# EAGLE library part 2X4_BRD (library cTechnologies_connectors)
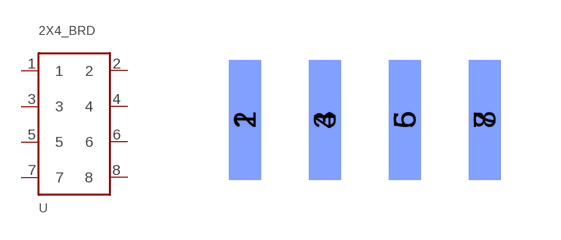
[diagram p10: symbol with the pads of 2X4-2MM; footprint 2X4-2MM]

Designator prefix -

## 2X4_BRD  [2X4-2MM]
1  1
2  2
3  3
4  4
5  5
6  6
7  7
8  8

## Footprint 2X4-2MM (pad centres in mm)
smd 0.8 x 3: 1 -3,0; 3 -1,0; 5 1,0; 7 3,0
smd 0.8 x 3 bottom: 2 -3,0; 4 -1,0; 6 1,0; 8 3,0